# Altium footprint library IR.PcbLib: 4 footprints
Each footprint in its own frame and in the unit in brackets; x right, y up, seen from the top. Pads: shape width x height; smd on the part's side, far side on the other; paste and mask are expansions set on the pad; w line width, h text height; cw(c..) or ccw(c..) is an arc to the next point about the centre after c.
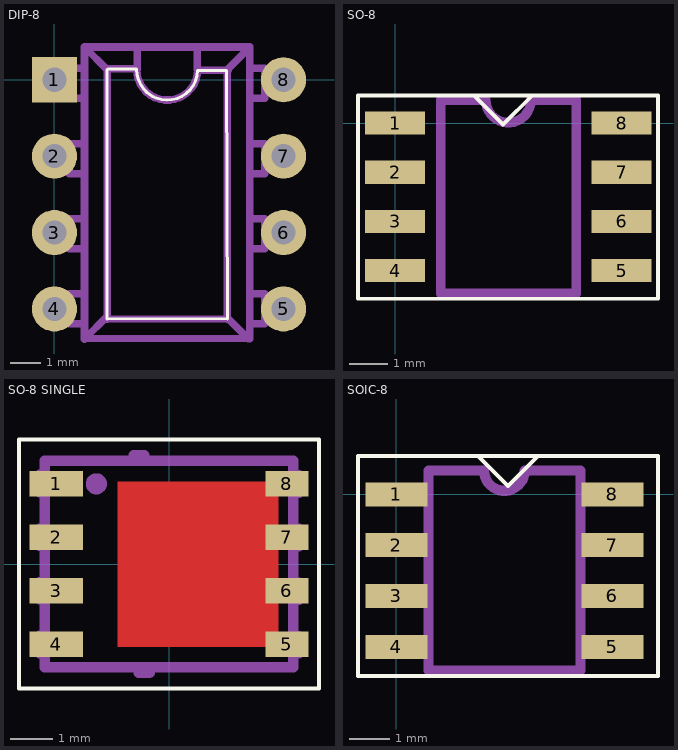
[diagram p0: the footprints below, top view; thin cyan lines are the x and y axes]

## DIP-8 [mm]
pads (8):
  rect 1.5x1.5 hole 0.8: 1(0,0)
  round 1.5 hole 0.8: 2(0,-2.54) 3(0,-5.08) 4(0,-7.62) 5(7.62,-7.62) 6(7.62,-5.08) 7(7.62,-2.54) 8(7.62,0)
Top Overlay:
  lines w0.1: 1.75,-7.96 1.75,0.34 ; 1.76,-7.96 5.73,-7.94 ; 1.78,0.36 2.73,0.36 ; 2.734,0.34 ccw(c3.75,0.34) 4.766,0.312 ; 4.78,0.31 5.73,0.31 5.75,-7.96
Mechanical 1:
  lines w0.25: 0.5,-7.37 -0.25,-7.37 -0.25,-7.87 0.5,-7.87 ; 0.5,-4.87 -0.25,-4.87 -0.25,-5.37 0.5,-5.37 ; 0.5,-2.37 -0.25,-2.37 -0.25,-2.87 0.5,-2.87 ; 0.5,0.13 -0.25,0.13 -0.25,-0.37 0.5,-0.37 ; 1,-8.62 1.75,-7.87 ; 1,-8.12 0.5,-8.12 0.5,-7.87 ; 1,-7.12 0.5,-7.12 0.5,-7.87 ; 1,-5.62 0.5,-5.62 0.5,-5.37 ; 1,-4.62 0.5,-4.62 0.5,-5.37 ; 1,-3.12 0.5,-3.12 0.5,-2.87 ; 1,-2.12 0.5,-2.12 0.5,-2.87 ; 1,-0.62 0.5,-0.62 0.5,-0.37 ; 1,0.38 0.5,0.38 0.5,-0.37 ; 1.73,0.36 2.73,0.36 ; 1.75,-7.96 1.75,0.34 1,1.09 ; 1.76,-7.96 5.73,-7.94 ; 2.734,0.34 ccw(c3.75,0.34) 4.766,0.34 ; 2.75,0.34 2.75,1.09 4.75,1.09 4.75,0.34 ; 3.5,1.09 6.5,1.09 6.5,-8.61 ; 4,1.09 1,1.09 ; 4.78,0.31 5.78,0.31 ; 5.75,-7.96 5.75,0.34 ; 5.75,-7.92 6.45,-8.61 ; 5.75,0.33 6.5,1.08 ; 6.48,-8.59 1,-8.61 1,1.09 ; 6.5,-8.12 7,-8.12 7,-7.37 ; 6.5,-7.12 7,-7.12 7,-7.37 ; 6.5,-5.62 7,-5.62 7,-4.87 ; 6.5,-4.62 7,-4.62 7,-4.87 ; 6.5,-3.12 7,-3.12 7,-2.37 ; 6.5,-2.12 7,-2.12 7,-2.37 ; 6.5,-0.62 7,-0.62 7,0.13 ; 6.5,0.38 7,0.38 7,0.13 ; 7,-7.87 7.75,-7.87 7.75,-7.37 7,-7.37 ; 7,-5.37 7.75,-5.37 7.75,-4.87 7,-4.87 ; 7,-2.87 7.75,-2.87 7.75,-2.37 7,-2.37 ; 7,-0.37 7.75,-0.37 7.75,0.13 7,0.13

## SO-8 [mm]
pads (8):
  rect 1.55x0.6 smd: 1(0,0) 2(0,-1.27) 3(0,-2.54) 4(0,-3.81) 5(5.85,-3.81) 6(5.85,-2.54) 7(5.85,-1.27) 8(5.85,0)
Top Overlay:
  lines w0.1: 2.04,0.71 2.79,-0.04 3.54,0.71 ; -0.96,-4.54 6.79,-4.54 6.79,0.71 -0.96,0.71 -0.96,-4.54
Mechanical 1:
  lines w0.25: 1.175,-4.405 4.675,-4.405 4.675,0.595 3.508,0.595 cw(c2.925,0.595) 2.342,0.595 1.175,0.595 1.175,-4.405

## SO-8 SINGLE [mm]
pads (8):
  rect 1.27x0.61 smd: 1(-2.67,1.905) 2(-2.67,0.635) 3(-2.67,-0.635) 4(-2.67,-1.905)
  rect 1.02x0.61 smd: 5(2.795,-1.905) 6(2.795,-0.635) 7(2.795,0.635) 8(2.795,1.905)
Top Layer:
  region: 2.595,-1.965 2.595,1.955 -1.215,1.955 -1.215,-1.965
Top Overlay:
  lines w0.1: -3.555,-2.95 3.555,-2.95 3.555,2.95 -3.555,2.95 -3.555,-2.95
Top Paste:
  region: 2.595,-1.965 2.595,1.955 -1.215,1.955 -1.215,-1.965
Top Solder:
  region: 2.685,-2.065 2.685,2.055 -1.315,2.055 -1.315,-2.065
Mechanical 1:
  circle w0.25: c-1.722,1.899 r0.125
  lines w0.25: -2.948,-2.11 -3.068,-2.11 -3.068,-1.7 -2.948,-1.7 ; -2.948,-0.84 -3.068,-0.84 -3.068,-0.43 -2.948,-0.43 ; -2.948,0.43 -3.068,0.43 -3.068,0.84 -2.948,0.84 ; -2.948,1.7 -3.068,1.7 -3.068,2.11 -2.948,2.11 ; -0.833,2.455 -0.833,2.57 ; -0.833,2.575 -0.583,2.575 ; -0.713,-2.575 -0.463,-2.575 ; -0.713,-2.57 -0.713,-2.455 ; -0.583,2.45 -0.583,2.57 ; -0.463,-2.57 -0.463,-2.45 ; 2.952,-2.12 3.072,-2.12 3.072,-1.71 2.952,-1.71 ; 2.952,-0.85 3.072,-0.85 3.072,-0.44 2.952,-0.44 ; 2.952,0.42 3.072,0.42 3.072,0.83 2.952,0.83 ; 2.952,1.69 3.072,1.69 3.072,2.1 2.952,2.1 ; -2.948,-2.45 2.947,-2.45 2.947,2.45 -2.948,2.45 -2.948,-2.45

## SOIC-8 [mm]
pads (8):
  rect 1.55x0.6 smd: 1(0,0) 2(0,-1.27) 3(0,-2.54) 4(0,-3.81) 5(5.4,-3.81) 6(5.4,-2.54) 7(5.4,-1.27) 8(5.4,0)
Top Overlay:
  lines w0.1: 2.04,0.96 2.79,0.21 3.54,0.96 ; -0.96,-4.54 6.54,-4.54 6.54,0.96 -0.96,0.96 -0.96,-4.54
Mechanical 1:
  lines w0.25: 2.192,0.595 0.8,0.595 0.8,-4.405 4.6,-4.405 4.6,0.595 3.208,0.595
  lines w0.254: 2.192,0.595 ccw(c2.7,0.595) 3.208,0.595